# Altium schematic symbol library Conn,Nano-Fit,TPA,8Pos.Schlib: 1 symbol
Pins are listed as number, name and electrical type; pins without a type are passive.

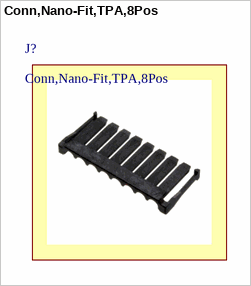
[diagram p0: symbol Conn,Nano-Fit,TPA,8Pos]

## Conn,Nano-Fit,TPA,8Pos
designator J?  (mechanical)
Connector Terminal Position Assurance (TPA) For Nano-Fit Housing